# EAGLE library part 90130-?10 (library con-molex)
C-Grid III 90130 2.54mm (.100") Pitch Shrouded Header Dual Row, Right Angle Fully Loaded
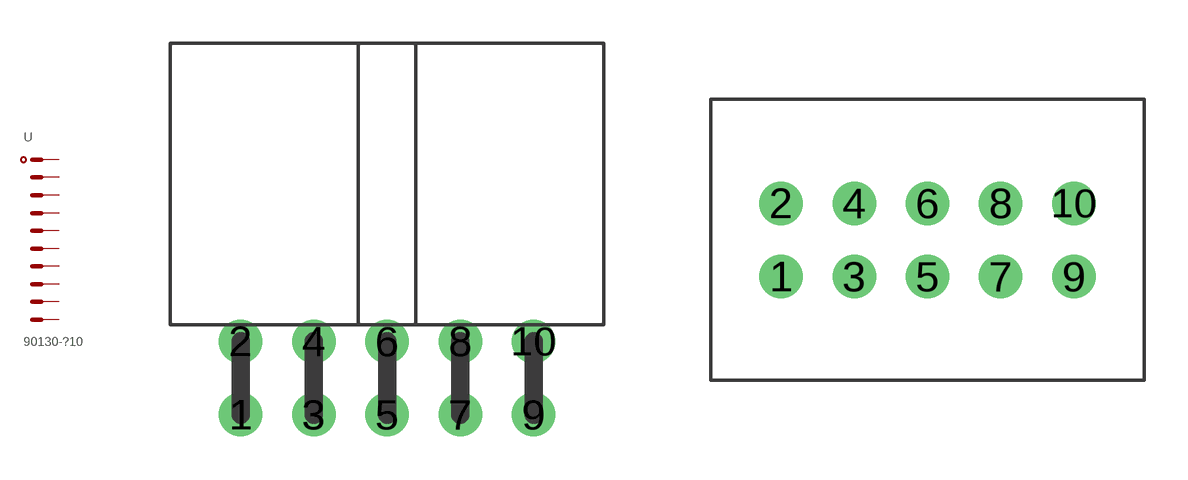
[diagram p10: symbol with the pads of 90130-3210; footprints 90130-3210, 90130-1110]

Designator prefix -

## 90130-3210  [90130-3210]
1  1  pas
2  2  pas
3  3  pas
4  4  pas
5  5  pas
6  6  pas
7  7  pas
8  8  pas
9  9  pas
10  10  pas

## 90130-1110  [90130-1110]
Pads as for 90130-3210

## Footprint 90130-3210 (pad centres in mm)
drill 1: 1 0,0; 2 0,2.54; 3 2.54,0; 4 2.54,2.54; 5 5.08,0; 6 5.08,2.54; 7 7.62,0; 8 7.62,2.54; 9 10.16,0; 10 10.16,2.54

## Footprint 90130-1110 (pad centres in mm)
drill 1: 1 0,0; 2 0,2.54; 3 2.54,0; 4 2.54,2.54; 5 5.08,0; 6 5.08,2.54; 7 7.62,0; 8 7.62,2.54; 9 10.16,0; 10 10.16,2.54